# Altium footprint library M1.PcbLib: 5 footprints
Each footprint in its own frame and in the unit in brackets; x right, y up, seen from the top. Pads: shape width x height; smd on the part's side, far side on the other; paste and mask are expansions set on the pad; w line width, h text height; cw(c..) or ccw(c..) is an arc to the next point about the centre after c.
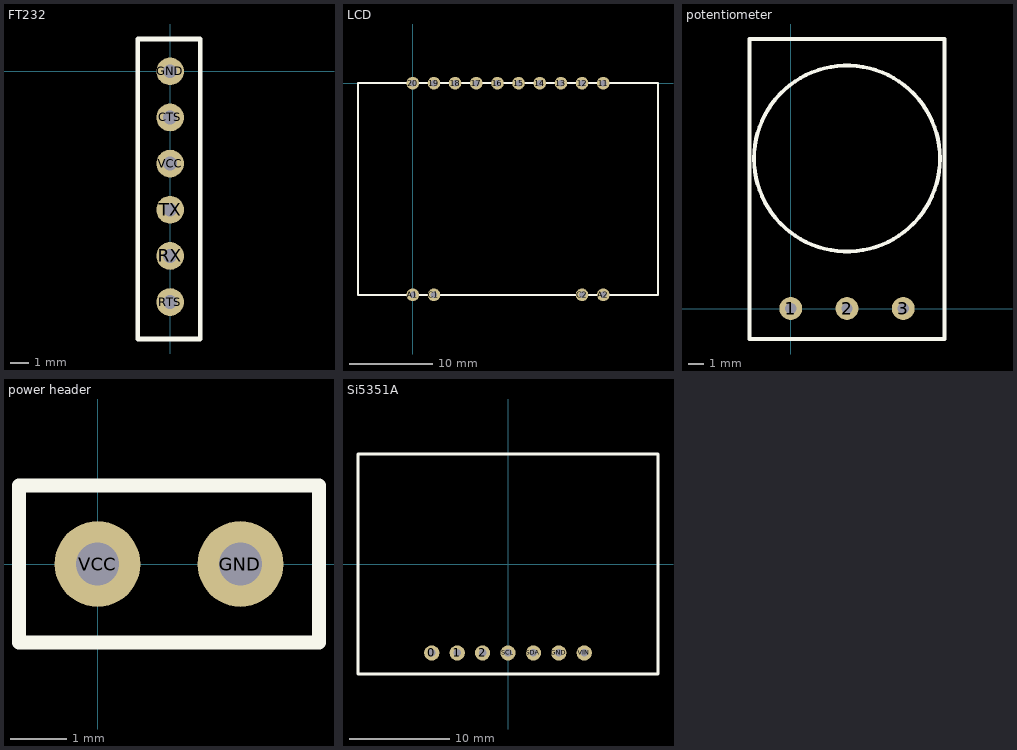
[diagram p0: the footprints below, top view; thin cyan lines are the x and y axes]

## FT232 [mil] "FT232"
pads (6):
  round 60 hole 30: CTS(0,-100) GND(0,0) RTS(0,-500) RX(0,-400) TX(0,-300) VCC(0,-200)
Top Overlay:
  lines w10: -70,-580 65,-580 65,70 -70,70 -70,-580

## LCD [mil] "lcd display"
pads (16):
  round 60 hole 30: 11(900,0) 12(800,0) 13(700,0) 14(600,0) 15(500,0) 16(400,0) 17(300,0) 18(200,0) 19(100,0) 20(0,0) A1(0,-1000) A2(900,-1000) C1(100,-1000) C2(800,-1000) ""(800,0) ""(800,0)
Top Overlay:
  lines w10: -258.66,-1000 1158.66,-1000 1158.66,0 -258.66,0 -258.66,-1000

## potentiometer [mil] "potentiometer for knobs(PN: P120PK-Y25BR10K)"
pads (3):
  round 60 hole 30: 1(0,0) 2(147.64,0) 3(295.28,0)
Top Overlay:
  circle w10: c147.64,393.7 r244.09
  lines w10: -108.27,-80 403.54,-80 403.54,707.4 -108.27,707.4 -108.27,-80

## power header [mil] "power header"
pads (2):
  round 60 hole 30: GND(100,0) VCC(0,0)
Top Overlay:
  lines w10: -55,-55 155,-55 155,55 -55,55 -55,-55

## Si5351A [mil] "PLL"
pads (7):
  round 60 hole 30: 0(-300,-350) 1(-200,-350) 2(-100,-350) GND(200,-350) SCL(0,-350) SDA(100,-350) VIN(300,-350)
Top Overlay:
  lines w10: -590.55,-433.07 590.55,-433.07 590.55,433.07 -590.55,433.07 -590.55,-433.07